# EAGLE library part MPU-6050 (library SmartBike)
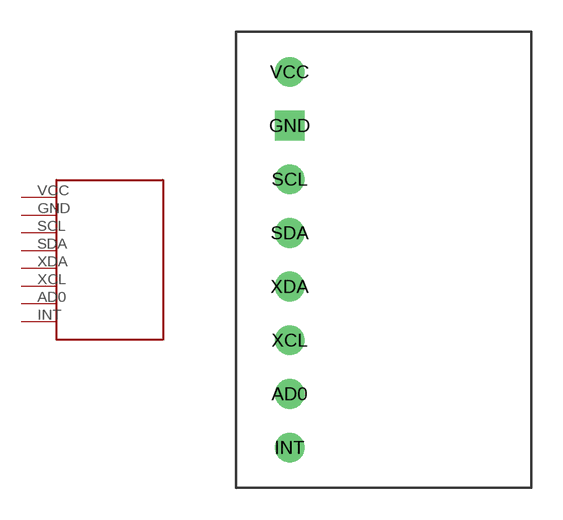
[diagram p2: symbol with the pads of MPU-6050; footprint MPU-6050]

Designator prefix IC

## MPU-6050  [MPU-6050]
AD0  AD0
GND  GND
INT  INT
SCL  SCL
SDA  SDA
VCC  VCC
XCL  XCL
XDA  XDA

## Footprint MPU-6050 (pad centres in mm)
drill 0.9: AD0 2.54,5.08; INT 2.54,2.54; SCL 2.54,15.24; SDA 2.54,12.7; VCC 2.54,20.32; XCL 2.54,7.62; XDA 2.54,10.16
drill 0.9 square: GND 2.54,17.78